# EAGLE library part HEADER-1X15 (library Header and Connector)
Header 1X15
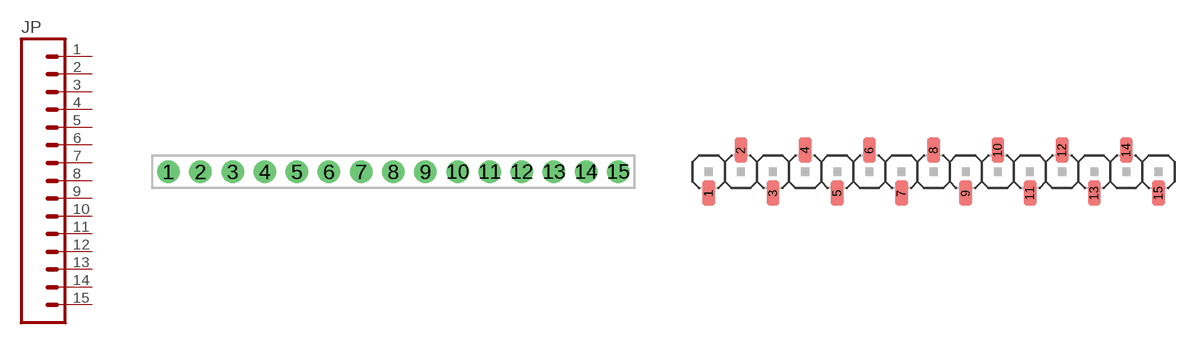
[diagram p23: symbol with the pads of HDR-F1X15; footprints HDR-F1X15, S-HDR-M1X15]

Designator prefix JP

## HEADER-1X15_(FEMALE) (DESC: Female Header 1x40 Ways; VALUE: 15/40 Ways)  [HDR-F1X15]
1  1  pas
2  2  pas
3  3  pas
4  4  pas
5  5  pas
6  6  pas
7  7  pas
8  8  pas
9  9  pas
10  10  pas
11  11  pas
12  12  pas
13  13  pas
14  14  pas
15  15  pas

## HEADER-1X15_(SMD-MALE-TYPE1) (CYTRON-PC: S-CN-PH-M140S; DESC: S Straight Male Header 1x40 Ways; VALUE: 10/40 Ways)  [S-HDR-M1X15]
Pads as for HDR-F1X15

## Footprint HDR-F1X15 (pad centres in mm)
drill 1.016 pad 1.778: 1 0,0; 2 2.54,0; 3 5.08,0; 4 7.62,0; 5 10.16,0; 6 12.7,0; 7 15.24,0; 8 17.78,0; 9 20.32,0; 10 22.86,0; 11 25.4,0; 12 27.94,0; 13 30.48,0; 14 33.02,0; 15 35.56,0

## Footprint S-HDR-M1X15 (pad centres in mm)
SMD Male Header 1x15 Created by: Wai Weng
smd 1 x 2: 1 0,-1.7; 2 2.54,1.7; 3 5.08,-1.7; 4 7.62,1.7; 5 10.16,-1.7; 6 12.7,1.7; 7 15.24,-1.7; 8 17.78,1.7; 9 20.32,-1.7; 10 22.86,1.7; 11 25.4,-1.7; 12 27.94,1.7; 13 30.48,-1.7; 14 33.02,1.7; 15 35.56,-1.7